# Altium schematic symbol library MOSFETs.SchLib: 14 symbols
Pins are listed as number, name and electrical type; pins without a type are passive.

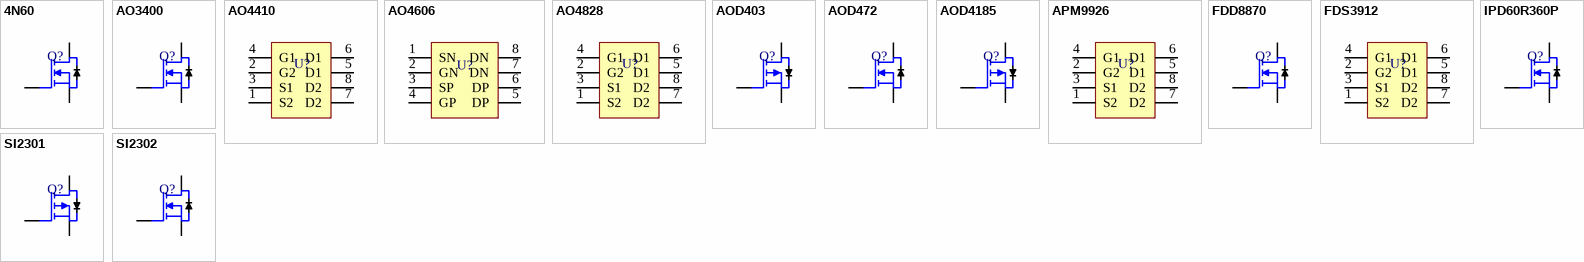
[diagram p0: symbols 4N60 to SI2302]

## 4N60
designator Q?  (value not drawn)
Mosfet N-CH 600V, 4A, 2.5Ω (10V)
footprint TO-252 (Footprint not found)
pins: 1 G, 2 D, 3 S

## AO3400
designator Q?, comment AO3403  (value not drawn)
Mosfet N-CH 30V, 5.8A, 28mΩ (10V), 33mΩ (4.5V), 52mΩ (2.5V)
footprint SOT-23
pins: 1 G, 2 D, 3 S

## AO4410
designator U?  (value not drawn)
Mosfet N+N-CH 30V, 18A, 5.5mΩ (10V), 6.2mΩ (4.5V)
footprint SOP-8 (Footprint not found)
pins: 1 S2, 2 G2, 3 S1, 4 G1, 5 D1, 6 D1, 7 D2, 8 D2

## AO4606
designator U?  (value not drawn)
Mosfet N+P-CH 30, 6A, 35mΩ (10V), 58Ω (4.5V)
footprint SOP-8 (Footprint not found)
pins: 1 SN, 2 GN, 3 SP, 4 GP, 5 DP, 6 DP, 7 DN, 8 DN

## AO4828
designator U?  (value not drawn)
Mosfet N+N-CH 60V, 4.5A, 56mΩ (10V), 77mΩ (4.5V)
footprint SOP-8 (Footprint not found)
pins: 1 S2, 2 G2, 3 S1, 4 G1, 5 D1, 6 D1, 7 D2, 8 D2

## AOD403
designator Q?, comment D403  (value not drawn)
Mosfet P-CH 30V, 70A, 6.2mΩ (20V), 8mΩ (10V)
footprint TO-252 (Footprint not found)
pins: 1 G, 2 D, 3 S

## AOD472
designator Q?  (value not drawn)
Mosfet N-CH 25V, 50A, 6mΩ (10V), 9.5mΩ (4.5V)
footprint TO-252 (Footprint not found)
pins: 1 G, 2 D, 3 S

## AOD4185
designator Q?  (value not drawn)
Mosfet P-CH 40V, 40A, 15mΩ (10V), 20mΩ (4.5V)
footprint TO-252 (Footprint not found)
pins: 1 G, 2 D, 3 S

## APM9926
designator U?  (value not drawn)
Mosfet N+N-CH 20V, 6A, 28mΩ (4.5V), 38mΩ (2.5V)
footprint SOP-8 (Footprint not found)
pins: 1 S2, 2 G2, 3 S1, 4 G1, 5 D1, 6 D1, 7 D2, 8 D2

## FDD8870
designator Q?  (value not drawn)
Mosfet N-CH 30V, 160A, 3.9mΩ (10V), 4.4mΩ (4.5V)
footprint TO-252 (Footprint not found)
pins: 1 G, 2 D, 3 S

## FDS3912
designator U?  (value not drawn)
Mosfet N+N-CH 100V, 3A, 125mΩ (10V), 135mΩ (6V)
footprint SOP-8 (Footprint not found)
pins: 1 S2, 2 G2, 3 S1, 4 G1, 5 D1, 6 D1, 7 D2, 8 D2

## IPD60R360P
designator Q?, comment 4N60  (value not drawn)
Mosfet N-CH 600V, 9A, 360mΩ (10V)
footprint TO-252 (Footprint not found)
pins: 1 G, 2 D, 3 S

## SI2301
designator Q?, comment AO2301  (value not drawn)
Mosfet P-CH 20V, 2.8A, 120mΩ (4.5V), 150mΩ (2.5V)
footprint SOT-23
pins: 1 G, 2 S, 3 D

## SI2302
designator Q?  (value not drawn)
Mosfet N-CH 20V, 3A, 55mΩ (4.5V), 82mΩ (2.5V)
footprint SOT-23
pins: 1 G, 2 S, 3 D